# Altium integrated library TANTALUM_CAPACITORS.IntLib: 1 symbol
Pins are listed as number, name and electrical type; pins without a type are passive.

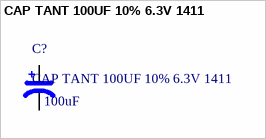
[diagram p0: symbol CAP TANT 100UF 10% 6.3V 1411]

## CAP TANT 100UF 10% 6.3V 1411
designator C?  value 100uF
100uF Solid MnO2 Tantalum Electrolytic Capacitor; 6.3 V dc +/-10%; T491 Series; Manufacturer: KEMET; Manufacturer Part Number: T491B107K006AT; ESR (Equivalent Series Resistance): 3R; Polarity: Polar; Leakage Current: 6.3uA; Dissipation Factor: 15%; Voltage Rating (DC): 6V; Supplier: Digi-Key; Supplier Part Number: 399-8301-1-ND; RoHS: Yes; Category: Tantalum Capacitors; Stock: 9514; Pricing: 1=1.1, 10=0.87, 50=0.7536, 100=0.6522, 500=0.49278, 1000=0.43481 (USD); Mounting Technology: Surface Mount; Case/Package: 1411; Pins: 2; Case Code (Imperial): 1411; Case Code (Metric): 3528; Dielectric Material: Tantalum; Min Operating Temperature: -55°C; Max Operating Temperature: 125°C; Tolerance: 10%; Voltage Rating: 6.3V; Packaging: Tape and Reel; Series: T491; Features: General Purpose; Termination: SMD/SMT; Construction: Flat; Package Quantity: 2000; Failure Rate: 0.001%; Voltage: 6.3V; Length: 3.5mm; Width: 2.8mm; Height: 1.9mm; Depth: 2.8mm; Height - Seated (Max): 0.083inch; Radiation Hardening: No; RoHS Compliant: Yes; Lead Free: Lead Free; Reach SVHC Compliant: No; ComponentLink1URL: https://datasheet.ciiva.com/5933/1851156-5933948.pdf?src-supplier=Farnell; ComponentLink1Description: https://datasheet.ciiva.com/5933/1851156-5933948.pdf?src-supplier=Farnell; ComponentLink2URL: https://datasheet.ciiva.com/5933/1446014-5933946.pdf?src-supplier=Farnell; ComponentLink2Description: https://datasheet.ciiva.com/5933/1446014-5933946.pdf?src-supplier=Farnell; ComponentLink3URL: https://datasheet.ciiva.com/46385/1854511-46385387.pdf?src-supplier=Element14; ComponentLink3Description: https://datasheet.ciiva.com/46385/1854511-46385387.pdf?src-supplier=Element14; ComponentLink4URL: https://datasheet.ciiva.com/6228/kem-t2005-t491-6228471.pdf?src-supplier=Digi-Key; ComponentLink4Description: https://datasheet.ciiva.com/6228/kem-t2005-t491-6228471.pdf?src-supplier=Digi-Key; ComponentLink5URL: https://datasheet.ciiva.com/6228/kem-t2005-t491-6228470.pdf?src-supplier=Digi-Key; ComponentLink5Description: https://datasheet.ciiva.com/6228/kem-t2005-t491-6228470.pdf?src-supplier=Digi-Key; ComponentLink6URL: https://datasheet.ciiva.com/6228/kem-t2005-t491-6228472.pdf?src-supplier=Digi-Key; ComponentLink6Description: https://datasheet.ciiva.com/6228/kem-t2005-t491-6228472.pdf?src-supplier=Digi-Key
footprint C1411
pins: 1, 2